# Altium schematic symbol library alcotest_sch_lib.SchLib: 12 symbols
Pins are listed as number, name and electrical type; pins without a type are passive.

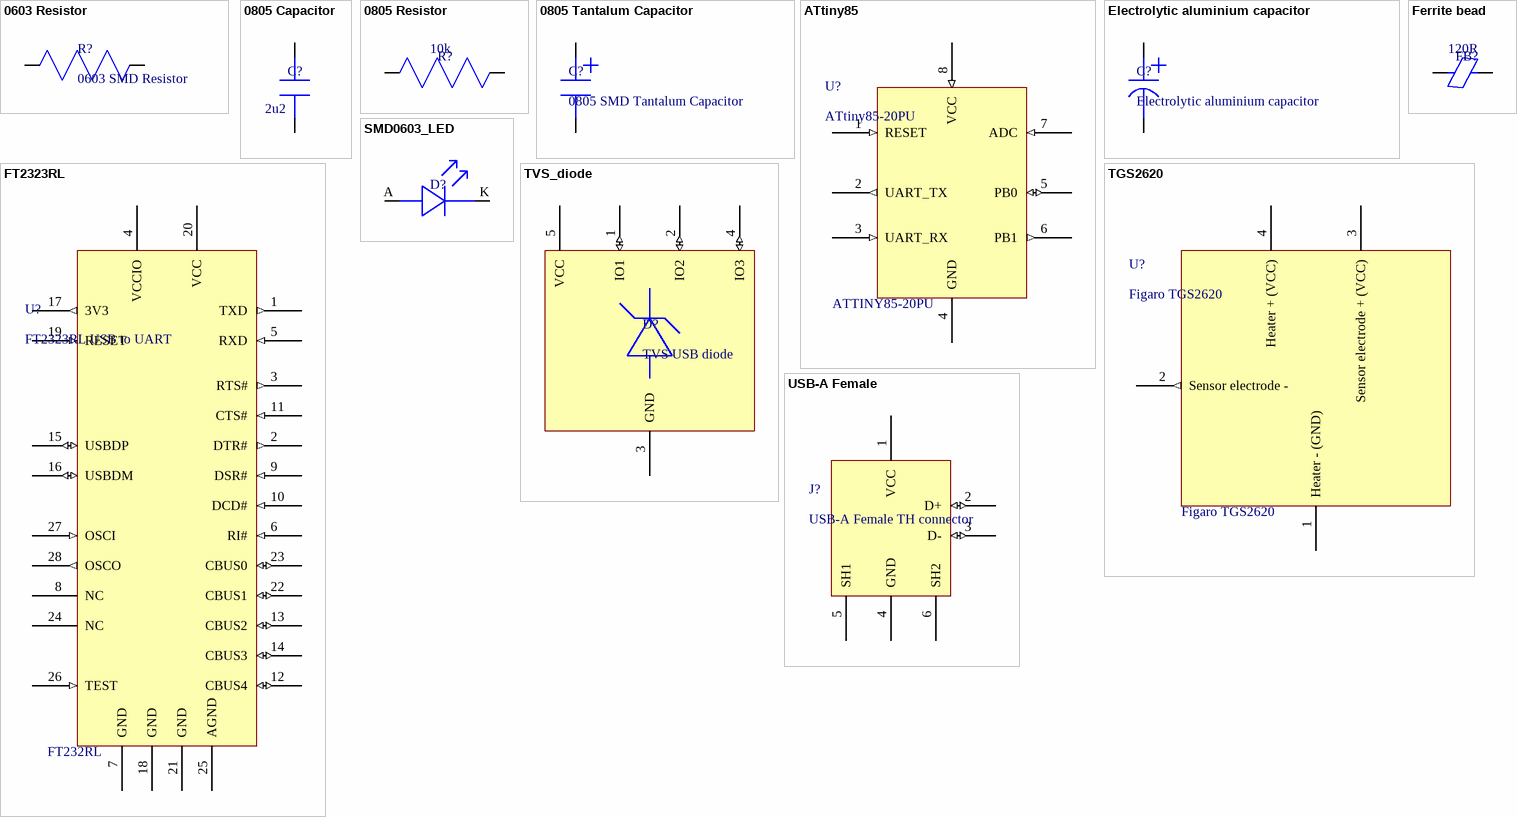
[diagram p0: symbols 0603 Resistor to USB-A Female]

## 0603 Resistor
designator R?, comment 0603 SMD Resistor
footprint 0603 Resistor
pins: 1, 2

## 0805 Capacitor
designator C?, comment value 2u2  (hidden comment: 0805 SMD Capacitor)
footprint Capacitor 0805
pins: 1, 2

## 0805 Resistor
designator R?, comment value 10k  (hidden comment: 0805 SMD resistor)
footprint Resistor 0805
pins: 1, 2

## 0805 Tantalum Capacitor
designator C?, comment 0805 SMD Tantalum Capacitor
0805 Tantalum Capacitor
footprint Capacitor 0805 Tantalum
pins: 1, 2

## ATtiny85
designator U?, comment ATtiny85-20PU
AVR AVR® ATtiny, Functional Safety (FuSa) Microcontroller IC 8-Bit 20MHz 8KB (4K x 16) FLASH 8-PDIP; Manufacturer: Microchip Technology; Manufacturer Product Number: ATTINY85-20PU
footprint DIP-8 (DIP-8 package footprint)
pins: 1 RESET (in), 2 UART_TX (out), 3 UART_RX (in), 4 GND (power), 5 PB0 (io), 6 PB1 (out), 7 ADC (in), 8 VCC (in)

## Electrolytic aluminium capacitor
designator C?
footprint Capacitor Electrolytic
pins: 1, 2

## Ferrite bead
designator FB?  value 120R  (hidden comment: Ferrite bead)
Ferrite Beads 0.6mm x 0.3mm x 0.3mm, -55 to +125 degC, 200mA, 120ohm, 390mohm; Manufacturer: TDK; Manufacturer Product Number: MMZ0603Y121CT000
footprint Ferrite bead
pins: 1, 2

## FT2323RL
designator U?, comment FT2323RL USB to UART  Manufacturer Product Number: FT232RL
USB Bridge, USB to UART USB 2.0 UART Interface 28-SSOP; Manufacturer: FTDI
footprint SOP28
pins: 1 TXD (out), 2 DTR# (out), 3 RTS# (out), 4 VCCIO (power), 5 RXD (in), 6 RI# (in), 7 GND (power), 8 NC, 9 DSR# (in), 10 DCD# (in), 11 CTS# (in), 12 CBUS4 (io), 13 CBUS2 (io), 14 CBUS3 (io), 15 USBDP (io), 16 USBDM (io), 17 3V3 (out), 18 GND (power), 19 RESET (in), 20 VCC (power), 21 GND (power), 22 CBUS1 (io), 23 CBUS0 (io), 24 NC, 25 AGND (power), 26 TEST (in), 27 OSCI (in), 28 OSCO (out)

## SMD0603_LED
designator D?, comment 0603 SMD LED  (value not drawn)
footprint 0603 LED
pins: A, K

## TGS2620
designator U?, comment Figaro TGS2620
Figaro TGS2620 gas sensor; Manufacturer: Figaro; Manufacturer Product Number: Figaro TGS2620
footprint TGS2620 (Figaro TGS2620 gas sensor)
pins: 1 Heater - (GND) (power), 2 Sensor electrode - (out), 3 Sensor electrode + (VCC) (power), 4 Heater + (VCC) (power)

## TVS_diode
designator D?, comment TVS USB diode
TVS DIODE 5.5VWM SOT5; Manufacturer: Texas Instruments; Manufacturer Product Number: TPD3E001DRLR
footprint TVS diode (TVS diode in SOT5 package.)
pins: 1 IO1 (io), 2 IO2 (io), 3 GND (power), 4 IO3 (io), 5 VCC (power)

## USB-A Female
designator J?, comment USB-A Female TH connector
footprint USB A Female TH connector
pins: 1 VCC (power), 2 D+ (io), 3 D- (io), 4 GND (power), 5 SH1 (power), 6 SH2 (power)